# Altium footprint library CAP_TH_5X12_L2.PcbLib: 2 footprints
Each footprint in its own frame and in the unit in brackets; x right, y up, seen from the top. Pads: shape width x height; smd on the part's side, far side on the other; paste and mask are expansions set on the pad; w line width, h text height; cw(c..) or ccw(c..) is an arc to the next point about the centre after c.
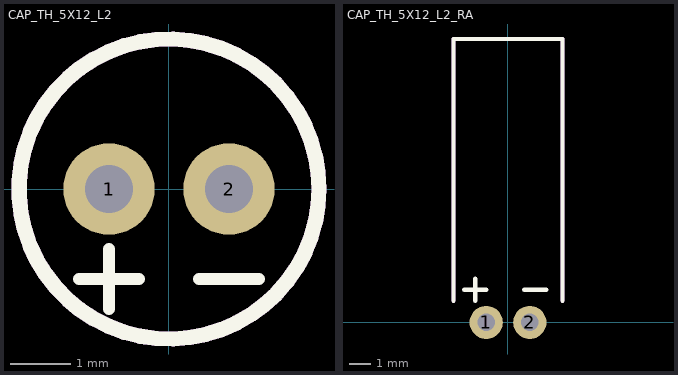
[diagram p0: the footprints below, top view; thin cyan lines are the x and y axes]

## CAP_TH_5X12_L2 [mil] "Cap, Aluminum Electrolytic, 2mm Lead Spacing, 12.5mm Height, Vertical Mount"
height 492.13
pads (2):
  round 60 hole 31.5: 1(-39.37,0) 2(39.37,0)
Top Overlay:
  circle w10: c0,0 r98.43
  lines w7.87: -59.05,-59.06 -19.68,-59.06 ; -39.37,-78.74 -39.37,-39.37 ; 19.69,-59.06 59.06,-59.06
Assembly-Top:
  circle w10: c0,0 r98.43
  circle w10: c0,0 r98.43
  text ".Designator" at -59.05,9.84 h60
3D body: height 433.07, standoff 0, extent -98.42,-98.29 98.43,98.3

## CAP_TH_5X12_L2_RA [mil] "Cap, Aluminum Electrolytic, 2mm Lead Spacing, 12.5mm Height, Right Angle Mount"
height 236.22
pads (2):
  round 60 hole 31.5: 1(-39.37,0) 2(39.37,0)
Top Overlay:
  lines w7.87: -98.43,39.37 -98.43,511.81 98.43,511.81 98.43,39.37 ; -78.74,59.06 -39.37,59.06 ; -59.05,39.37 -59.05,78.74 ; 29.53,59.06 68.9,59.06
Assembly-Top:
  lines w7.87: -98.43,39.37 -98.43,511.81 98.43,511.81 98.43,39.37
  text ".Designator" at -19.68,452.76 h60
3D body: height 196.72, standoff 0.13, extent -98.43,78.74 98.43,511.81